# Altium footprint library tp4056_shield.PcbLib: 1 footprints
Each footprint in its own frame and in the unit in brackets; x right, y up, seen from the top. Pads: shape width x height; smd on the part's side, far side on the other; paste and mask are expansions set on the pad; w line width, h text height; cw(c..) or ccw(c..) is an arc to the next point about the centre after c.
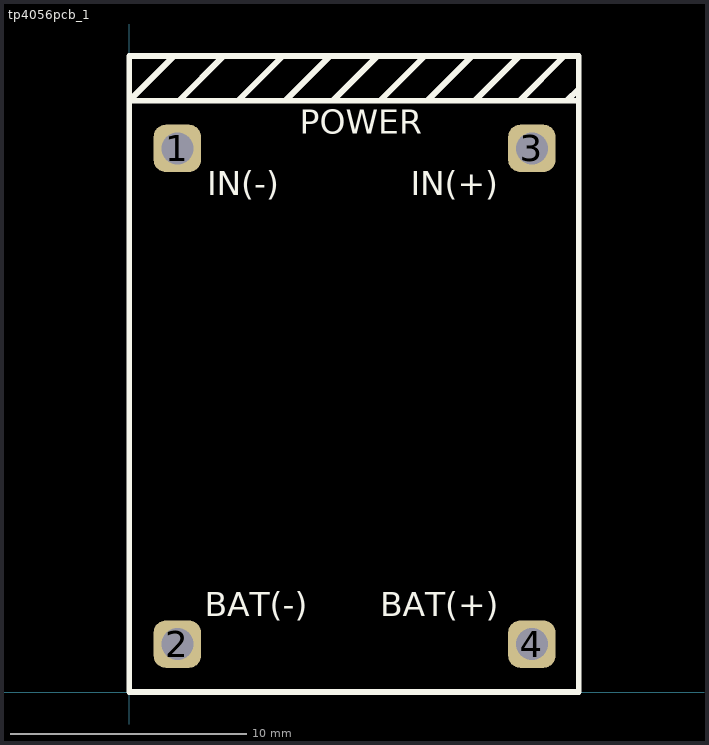
[diagram p0: the footprint, top view; thin cyan lines are the x and y axes]

## tp4056pcb_1 [mm]
pads (4):
  rrect50% 2x2 hole 1.35: 1(2.032,22.987) 2(2.032,2.032) 3(17.018,22.987) 4(17.018,2.032)
Top Overlay:
  lines w0.25: 0.1,25 0,25 ; 2,25 2.1,25 4,26.9 ; 2,26.9 1.9,26.9 0,25 ; 4,25 4.1,25 ; 4.5,25 4.6,25 6.5,26.9 ; 5.9,26.9 6,26.9 ; 6.5,25 6.6,25 8.5,26.9 ; 8.5,25 8.6,25 10.5,26.9 ; 10.5,25 10.6,25 12.5,26.9 ; 12.5,25 12.6,25 14.5,26.9 ; 14.5,25 14.6,25 16.5,26.9 ; 16.5,25 18.4,26.9 ; 18.5,25 19,25.5 ; 19,25 0,25 ; 0,0 19,0 19,26.9 0,26.9 0,0
  text "BAT(-)" at 3.2,3.2 h1.02
  text "IN(-)" at 3.3,21 h1.02
  text "POWER" at 7.2,23.6 h1.02
  text "BAT(+)" at 10.6,3.2 h1.02
  text "IN(+)" at 11.9,21 h1.02
3D body: height 8.2, standoff 2.84, extent 0,-0.1 19,26.833
3D body: height 3.23, standoff -6.55, extent 15.8,21.73 18.34,24.27
3D body: height 3.23, standoff -6.55, extent 0.76,21.83 3.3,24.37
3D body: height 3.23, standoff -6.55, extent 0.8,0.83 3.34,3.37
3D body: height 3.23, standoff -6.55, extent 15.8,0.83 18.34,3.37